# Altium schematic symbol library NetTie.Schlib: 1 symbol
Pins are listed as number, name and electrical type; pins without a type are passive.

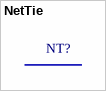
[diagram p0: symbol NetTie]

## NetTie
designator NT?  (value not drawn)  (net tie, no BOM)
Combines 2 nets
footprint NET_TIE-12 (12mil patch for net tie.)
pins: 1, 2